# EAGLE library part MGA-16516-BLKG (library Avago_By_element14_Batch_1)
Low Noise, High Linearity Match Pair Low Noise Amplifier
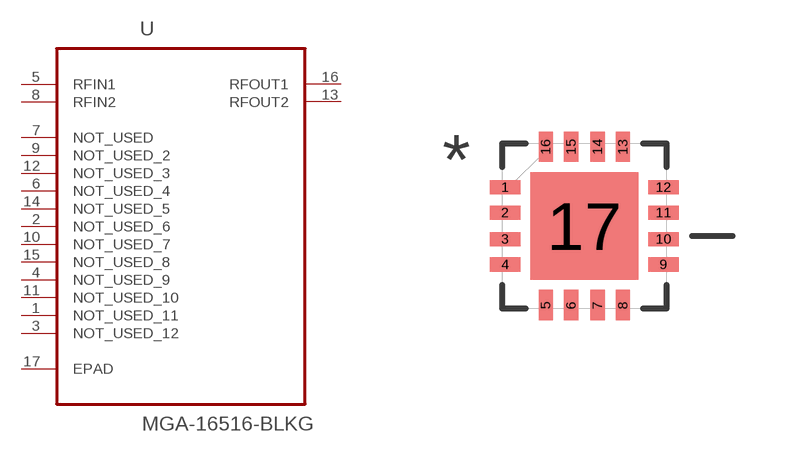
[diagram p16: symbol with the pads of QFN65P400X400X95-17N; footprint QFN65P400X400X95-17N]

Designator prefix U

## MGA-16516-BLKG (DESCRIPTION: Low Noise, High Linearity Match Pair Low Noise Amplifier; MPN: MGA-16516-BLKG; OC_FARNELL: 1865166; OC_NEWARK: 14R8920; PACKAGE: QFN-16; SUPPLIER: AVAGO TECHNOLOGIES)  [QFN65P400X400X95-17N]
1  NOT_USED_11  nc
2  NOT_USED_6  nc
3  NOT_USED_12  nc
4  NOT_USED_9  nc
5  RFIN1  in
6  NOT_USED_4  nc
7  NOT_USED  nc
8  RFIN2  in
9  NOT_USED_2  nc
10  NOT_USED_7  nc
11  NOT_USED_10  nc
12  NOT_USED_3  nc
13  RFOUT2  out
14  NOT_USED_5  nc
15  NOT_USED_8  nc
16  RFOUT1  out
17  EPAD  pas

## Footprint QFN65P400X400X95-17N (pad centres in mm)
smd 0.762 x 0.356: 1 -1.981,0.965; 2 -1.981,0.33; 3 -1.981,-0.33; 4 -1.981,-0.965; 9 1.981,-0.965; 10 1.981,-0.33; 11 1.981,0.33; 12 1.981,0.965
smd 0.356 x 0.762: 5 -0.965,-1.981; 6 -0.33,-1.981; 7 0.33,-1.981; 8 0.965,-1.981; 13 0.965,1.981; 14 0.33,1.981; 15 -0.33,1.981; 16 -0.965,1.981
smd 2.692 x 2.692: 17 0,0